# Altium footprint library RES.PcbLib: 13 footprints
Each footprint in its own frame and in the unit in brackets; x right, y up, seen from the top. Pads: shape width x height; smd on the part's side, far side on the other; paste and mask are expansions set on the pad; w line width, h text height; cw(c..) or ccw(c..) is an arc to the next point about the centre after c.
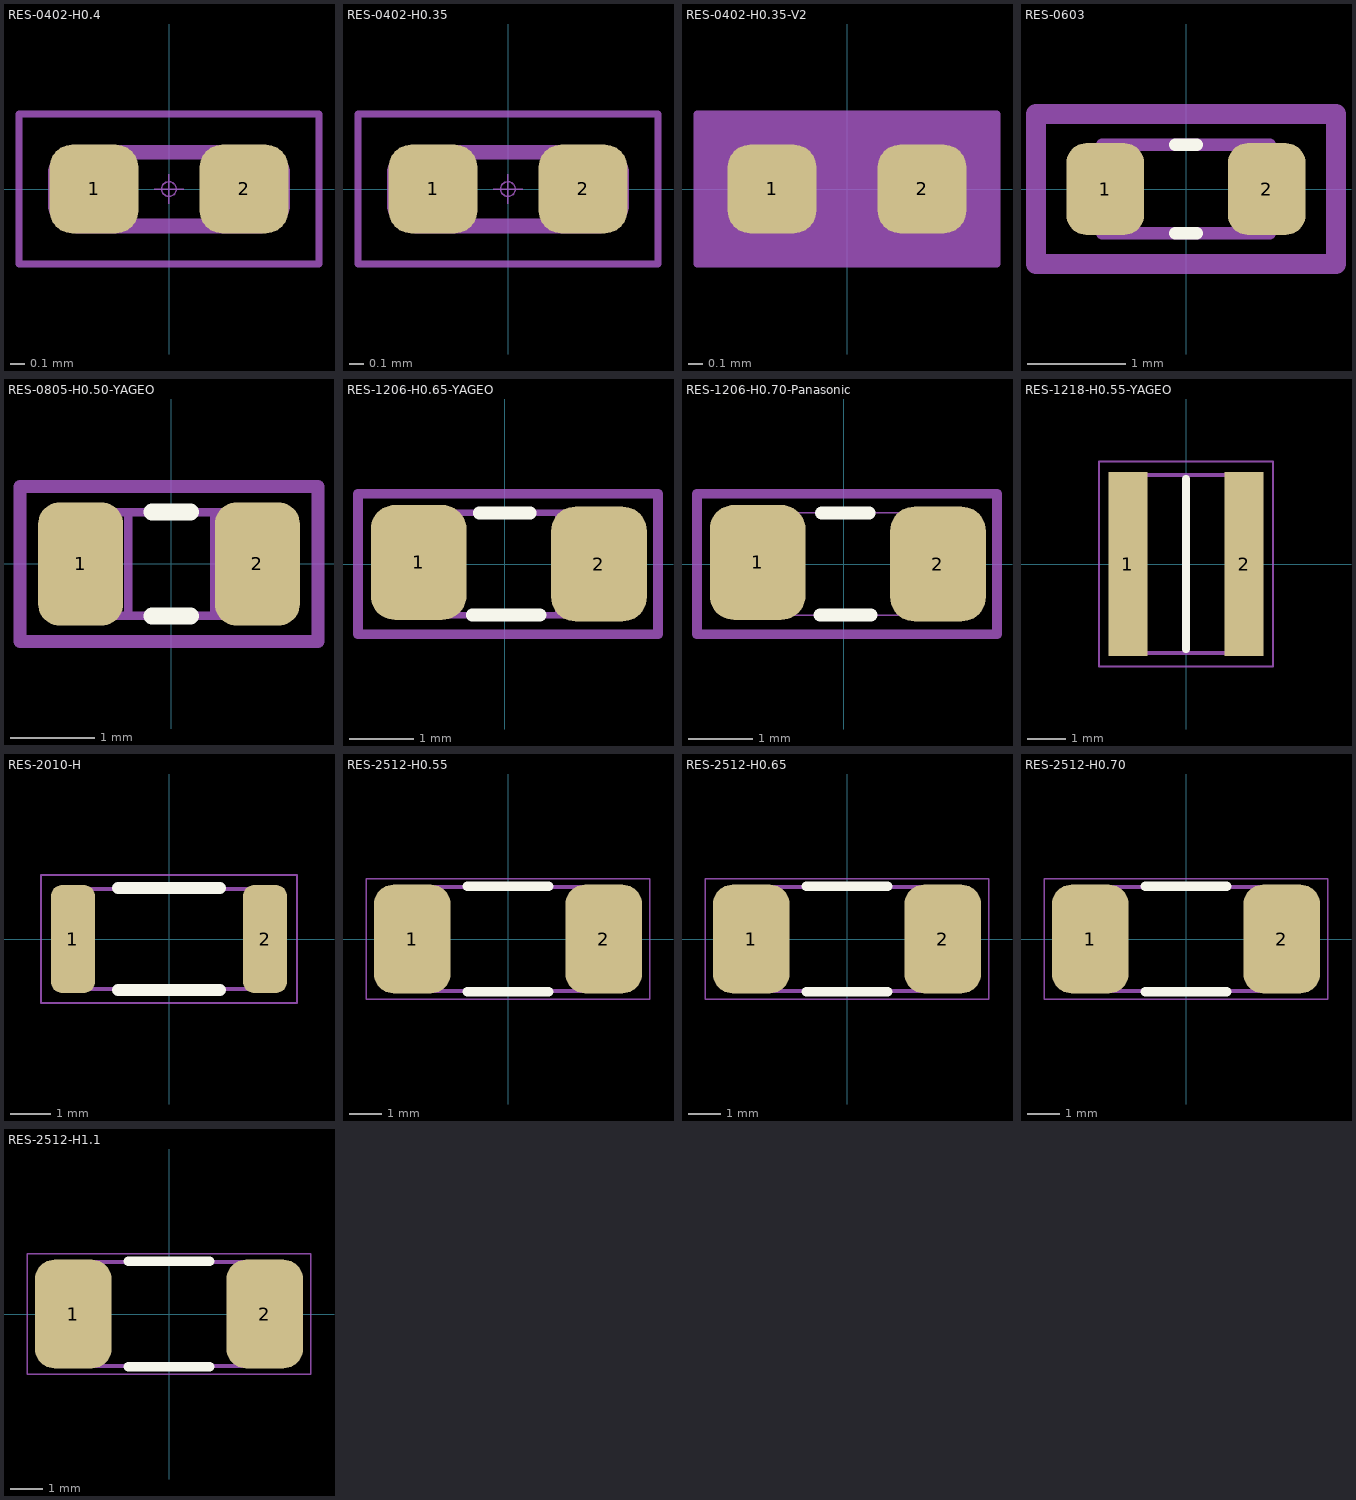
[diagram p0: the footprints below, top view; thin cyan lines are the x and y axes]

## RES-0402-H0.4 [mm]
pads (2):
  rrect50% 0.6x0.6 smd: 1(-0.508,0) 2(0.508,0)
Top Assembly:
  lines w0.1: -0.5,-0.25 0.5,-0.25 ; -0.5,-0.25 -0.5,0.25 ; -0.5,-0.25 -0.62,-0.25 cw(c-0.62,-0.1) -0.77,-0.1 -0.77,0.1 cw(c-0.62,0.1) -0.62,0.25 -0.5,0.25 ; -0.5,0.25 0.5,0.25 ; 0.5,-0.25 0.5,0.25 ; 0.5,-0.25 0.62,-0.25 ccw(c0.62,-0.1) 0.77,-0.1 0.77,0.1 ccw(c0.62,0.1) 0.62,0.25 0.5,0.25
Top Component Outline:
  circle w0.01: c0,0 r0.05
  lines w0.01: -0.1,0 0.1,0 ; 0,-0.1 0,0.1
  lines w0.05: -1.016,-0.508 1.016,-0.508 1.016,0.508 -1.016,0.508 -1.016,-0.508
3D body "RES-0402-H0.4.stp": height 0.4, standoff 0, extent -0.75,-0.25 0.75,0.25

## RES-0402-H0.35 [mm]
height 0.35
pads (2):
  rrect50% 0.6x0.6 smd: 1(-0.508,0) 2(0.508,0)
Top Assembly:
  lines w0.1: -0.5,-0.25 0.5,-0.25 ; -0.5,-0.25 -0.5,0.25 ; -0.5,-0.25 -0.62,-0.25 cw(c-0.62,-0.1) -0.77,-0.1 -0.77,0.1 cw(c-0.62,0.1) -0.62,0.25 -0.5,0.25 ; -0.5,0.25 0.5,0.25 ; 0.5,-0.25 0.5,0.25 ; 0.5,-0.25 0.62,-0.25 ccw(c0.62,-0.1) 0.77,-0.1 0.77,0.1 ccw(c0.62,0.1) 0.62,0.25 0.5,0.25
Top Component Outline:
  circle w0.01: c0,0 r0.05
  lines w0.01: -0.1,0 0.1,0 ; 0,-0.1 0,0.1
  lines w0.05: -1.016,-0.508 1.016,-0.508 1.016,0.508 -1.016,0.508 -1.016,-0.508
3D body "RES-0402-H0.35.stp": height 0.4, standoff 0, extent -0.75,-0.25 0.75,0.25

## RES-0402-H0.35-V2 [mm]
height 0.35
pads (2):
  rrect50% 0.6x0.6 smd: 1(-0.508,0) 2(0.508,0)
Top Solder:
  rectangle: -1.016,-0.508 1.016,0.508
Board:
  cavity: 1.016,-0.508 1.016,0.508 -1.016,0.508 -1.016,-0.508
Top Assembly:
  lines w0.1: -0.5,-0.25 0.5,-0.25 ; -0.5,-0.25 -0.5,0.25 ; -0.5,-0.25 -0.62,-0.25 cw(c-0.62,-0.1) -0.77,-0.1 -0.77,0.1 cw(c-0.62,0.1) -0.62,0.25 -0.5,0.25 ; -0.5,0.25 0.5,0.25 ; 0.5,-0.25 0.5,0.25 ; 0.5,-0.25 0.62,-0.25 ccw(c0.62,-0.1) 0.77,-0.1 0.77,0.1 ccw(c0.62,0.1) 0.62,0.25 0.5,0.25
Top Component Outline:
  circle w0.01: c0,0 r0.05
  lines w0.01: -0.1,0 0.1,0 ; 0,-0.1 0,0.1
  lines w0.05: -1.016,-0.508 1.016,-0.508 1.016,0.508 -1.016,0.508 -1.016,-0.508
3D body "RES-0402-H0.35.stp": height 0.4, standoff 0, extent -0.75,-0.25 0.75,0.25

## RES-0603 [mm]
pads (2):
  rrect50% 0.79x0.93 smd: 1(-0.82,0) 2(0.82,0)
Top Overlay:
  lines w0.127: -0.11,-0.45 0.11,-0.45 ; -0.11,0.45 0.11,0.45
Top Assembly:
  lines w0.127: -0.85,-0.45 -0.85,0.45 0.85,0.45 0.85,-0.45 -0.85,-0.45
Top Component Outline:
  lines w0.2: -1.524,-0.762 1.524,-0.762 1.524,0.762 -1.524,0.762 -1.524,-0.762
3D body "RES-0603.STEP": height 0.55, standoff 0, extent -0.8,-0.4 0.8,0.4

## RES-0805-H0.50-YAGEO [mm]
height 0.5
pads (2):
  rrect50% 1x1.45 smd: 1(-1.067,0) 2(1.016,0)
Top Overlay:
  lines w0.2: -0.229,-0.61 0.229,-0.61 ; -0.229,0.61 0.229,0.61
Top Assembly:
  lines w0.1: -0.508,-0.61 -0.508,0.61 ; 0.508,-0.61 0.508,0.61 ; -0.991,-0.61 0.991,-0.61 0.991,0.61 -0.991,0.61 -0.991,-0.61
Top Component Outline:
  lines w0.152: -1.778,-0.914 -1.778,0.914 1.727,0.914 1.727,-0.914 -1.778,-0.914
3D body "RES-0805-H0.50.stp": height 0.6, standoff 0, extent -1.4,-0.625 1.4,0.625

## RES-1206-H0.65-YAGEO [mm]
pads (2):
  rrect50% 1.5x1.8 smd: 1(-1.35,0.025) 2(1.475,0)
Top Overlay:
  lines w0.2: -0.511,-0.8 0.55,-0.8 ; -0.4,0.8 0.4,0.8
Top Assembly:
  lines w0.1: -1.6,-0.8 1.6,-0.8 ; -1.6,-0.8 -1.6,0.8 ; -1.6,-0.8 -1.6,0.8 ; -1.6,-0.8 -0.838,-0.8 -0.838,0.8 -1.6,0.8 ; -1.6,0.8 1.6,0.8 ; 1.6,-0.8 1.6,0.8 ; 1.6,-0.8 1.6,0.8 ; 1.6,-0.8 0.838,-0.8 0.838,0.8 1.6,0.8
Top Component Outline:
  lines w0.152: -2.3,-1.1 2.4,-1.1 2.4,1.1 -2.3,1.1 -2.3,-1.1
3D body "RC1206N_YAG.step": height 0.71, standoff 0, extent -1.6,-0.8 1.6,0.8

## RES-1206-H0.70-Panasonic [mm]
pads (2):
  rrect50% 1.5x1.8 smd: 1(-1.35,0.025) 2(1.475,0)
Top Overlay:
  lines w0.2: -0.375,-0.8 0.425,-0.8 ; -0.35,0.8 0.4,0.8
Top Assembly:
  lines w0.025: -1.6,-0.8 -1.6,0.8 ; -1.6,-0.8 -1.6,0.8 ; -1.6,-0.8 1.6,-0.8 ; -1.6,-0.8 -0.85,-0.8 -0.85,0.8 -1.6,0.8 ; -1.6,0.8 1.6,0.8 ; 1.6,-0.8 1.6,0.8 ; 1.6,-0.8 0.85,-0.8 0.85,0.8 1.6,0.8 ; 1.6,-0.8 1.6,0.8
Top Component Outline:
  lines w0.152: -2.3,-1.1 2.4,-1.1 2.4,1.1 -2.3,1.1 -2.3,-1.1
3D body "RC1206N_PAN.step": height 0.71, standoff 0, extent -1.6,-0.8 1.6,0.8

## RES-1218-H0.55-YAGEO [mm] "YAGEO"
pads (2):
  rect 1x4.75 smd: 1(-1.5,0) 2(1.5,0)
Top Overlay:
  lines w0.2: 0,-2.2 0,2.2
Top Assembly:
  lines w0.1: -1.55,-2.3 1.55,-2.3 1.55,2.3 -1.55,2.3 -1.55,-2.3
Top Component Outline:
  lines w0.05: -2.25,-2.65 -2.25,2.65 2.25,2.65 2.25,-2.65 -2.25,-2.65
3D body "RC1218JK-076R8L.stp": height 0.65, standoff 0, extent -1.55,-2.3 1.55,2.3

## RES-2010-H [mm]
pads (2):
  rrect50% 1.1x2.7 smd: 1(-2.4,0) 2(2.4,0)
Top Overlay:
  lines w0.3: -1.27,-1.27 1.27,-1.27 ; -1.27,1.27 1.27,1.27
Top Assembly:
  lines w0.1: -2.5,-1.25 2.5,-1.25 2.5,1.25 -2.5,1.25 -2.5,-1.25
Top Component Outline:
  lines w0.05: -3.2,-1.6 3.2,-1.6 3.2,1.6 -3.2,1.6 -3.2,-1.6
3D body "RES-2010-H.stp": height 1.2, standoff 0, extent -2.5,-1.25 2.5,1.25

## RES-2512-H0.55 [mm]
pads (2):
  rrect50% 2.4x3.4 smd: 1(-3,0) 2(3,0)
Top Overlay:
  lines w0.3: -1.27,-1.651 1.27,-1.651 ; -1.27,1.651 1.27,1.651
Top Assembly:
  lines w0.127: -3.22,-1.63 -3.22,1.63 3.22,1.63 3.22,-1.63 -3.22,-1.63
Top Component Outline:
  lines w0.05: -4.445,-1.885 -4.445,1.885 4.445,1.885 4.445,-1.885 -4.445,-1.885
3D body "RES-2512-H0.55.stp": height 0.65, standoff 0, extent -3.772,-1.55 3.772,1.55

## RES-2512-H0.65 [mm]
pads (2):
  rrect50% 2.4x3.4 smd: 1(-3,0) 2(3,0)
Top Overlay:
  lines w0.3: -1.27,-1.651 1.27,-1.651 ; -1.27,1.651 1.27,1.651
Top Assembly:
  lines w0.127: -3.22,-1.63 3.22,-1.63 3.22,1.63 -3.22,1.63 -3.22,-1.63
Top Component Outline:
  lines w0.05: -4.445,-1.885 4.445,-1.885 4.445,1.885 -4.445,1.885 -4.445,-1.885
3D body "RES-2512-H0.65.stp": height 0.65, standoff 0, extent -3.775,-1.55 3.775,1.55

## RES-2512-H0.70 [mm]
pads (2):
  rrect50% 2.4x3.4 smd: 1(-3,0) 2(3,0)
Top Overlay:
  lines w0.3: -1.27,-1.651 1.27,-1.651 ; -1.27,1.651 1.27,1.651
Top Assembly:
  lines w0.127: -3.22,-1.63 3.22,-1.63 3.22,1.63 -3.22,1.63 -3.22,-1.63
Top Component Outline:
  lines w0.05: -4.445,-1.885 4.445,-1.885 4.445,1.885 -4.445,1.885 -4.445,-1.885
3D body "RES-2512-H0.70.stp": height 0.75, standoff 0, extent -3.75,-1.55 3.75,1.55

## RES-2512-H1.1 [mm]
pads (2):
  rrect50% 2.4x3.4 smd: 1(-3,0) 2(3,0)
Top Overlay:
  lines w0.3: -1.27,-1.651 1.27,-1.651 ; -1.27,1.651 1.27,1.651
Top Assembly:
  lines w0.127: -3.22,-1.63 -3.22,1.63 3.22,1.63 3.22,-1.63 -3.22,-1.63
Top Component Outline:
  lines w0.05: -4.445,-1.885 -4.445,1.885 4.445,1.885 4.445,-1.885 -4.445,-1.885
3D body "RES-2512-H1.1.stp": height 1.2, standoff 0, extent -3.775,-1.6 3.775,1.6